# Altium schematic symbol library c3_SchLib.SchLib: 363 symbols (part 2 of 3)
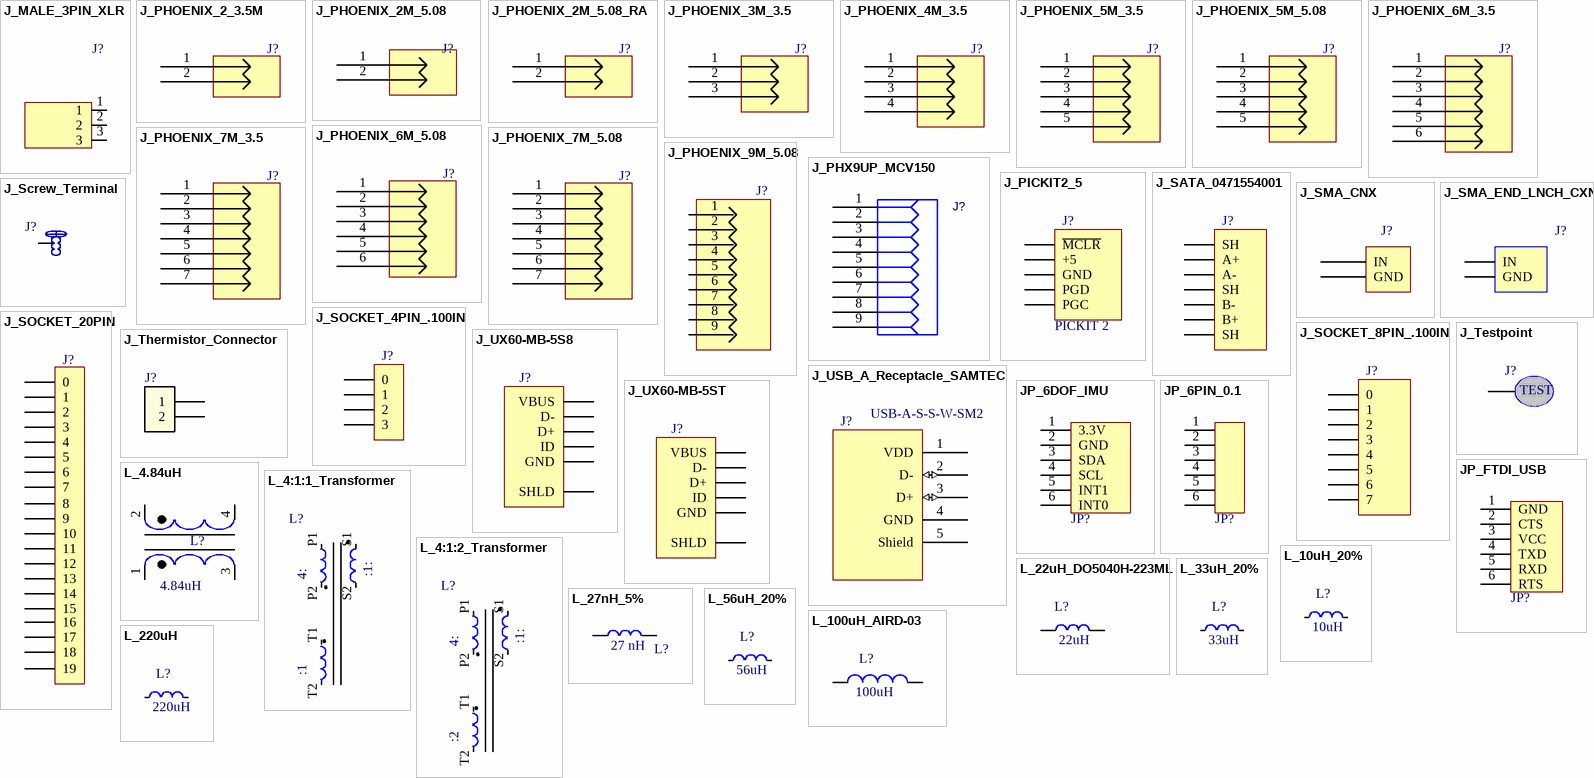
[diagram p12: symbols J_MALE_3PIN_XLR to L_220uH]

## J_UX60-MB-5ST
designator J?  (value not drawn)
CONN RECEPT MINI USB2.0 5POS; Manufacturer: Hirose; Manufacturer PN: UX60-MB-5S8; SVP Creator: Nate Bolyard; Known Distributors: Digikey; Price: 0.85240; ComponentLink1Description: Datasheet; ComponentLink1URL: http://umnsvp.dyndns.org/svn/centaurus2/datasheets/Common Board/e24000019.pdf; HelpURL: http://umnsvp.dyndns.org/svn/centaurus2/datasheets/Common Board/e24000019.pdf
footprint UX60-MB-5ST
pins: 1 VBUS, 2 D-, 3 D+, 4 ID, 5 GND, 6 SHLD

## JP_6DOF_IMU
designator JP?, comment IMU Connector  (value not drawn)
6DOF Sensor Board; SVP Creator: Mark Newcomb; Known Distributors: Sparkfun; ComponentLink1Description: http://www.sparkfun.com/products/10121; ComponentLink1URL: /Hardware/datasheets/Telemetry/6DOF-Digital-v10.pdf; Price: $64.95
footprint SPARKFUN_6DOF_IMU
pins: 1 3.3V, 2 GND, 3 SDA, 4 SCL, 5 INT1, 6 INT0

## JP_6PIN_0.1
designator JP?, comment IDC Connector  (value not drawn)
Generic 0.1in 6 pin 2x3 connector; SVP Creator: Jonathan Nutzmann
footprint 6PIN_.100IN
pins: 1, 2, 3, 4, 5, 6

## JP_FTDI_USB
designator JP?, comment IDC Connector  (value not drawn)
FTDI Cable VCC I/O; SVP Creator: Jonathan Nutzmann
footprint 6PIN_1_.100IN
pins: 1 GND, 2 CTS, 3 VCC, 4 TXD, 5 RXD, 6 RTS

## L_4.84uH
designator L?  value 4.84uH  (hidden comment: *)
L_4.84uH; Manufacturer: COILTRONICS; Manufacturer PN: DRQ127-4R7-R; SVP Creator: Matt Rogge; Known Distributors: digikey; ComponentLink1Description: Datasheet; ComponentLink1URL: SVN Datasheet URL; Price: 2.93
footprint DRQ127
pins: 1, 2, 3, 4

## L_4:1:1_Transformer
designator L?  (value not drawn)
FLYBACK TRANSFORMER; Manufacturer PN: Custom Wound Core; Current Rating: 7.2A; SVP Creator: Chad Furey; Value: 95uH; ComponentLink1Description: Datasheet
footprint DMT3-138-6L (Inductor); pin to pad P1>1 P2>2 S1>3 S2>4 T1>5 T2>6
pins: P1 1, P2 2, S1 3, S2 4, T1 5, T2 6
text: 4:; :1:; :1

## L_4:1:2_Transformer
designator L?  (value not drawn)
FLYBACK TRANSFORMER; Manufacturer PN: Custom Wound Core; Current Rating: 7.2A; SVP Creator: Marcus Ewert; Value: 95uH; ComponentLink1Description: Datasheet
footprint DMT3-138-6L (Inductor); pin to pad P1>1 P2>2 S1>3 S2>4 T1>5 T2>6
footprint 41.90mmOD Ferrite Core; pin to pad P1>1 P2>2 S1>4 S2>3 T1>5 T2>6
pins: P1 1, P2 2, S1 3, S2 4, T1 5, T2 6
text: 4:; :1:; :2

## L_10uH_20%
designator L?  value 10uH  (hidden comment: L_10uH_20%)
INDUCTOR PWR 10UH 20% SHIELD SMD; Manufacturer: Coilcraft; Manufacturer PN: LPS4018-103; Irms: 1.25A; SVP Creator: Brett Paulsen; Isat: 1.3A; Package: 4.00mm x 4.00mm x 1.8mm); Known Distributor: Digikey; ComponentLink1Description: Datasheet
footprint LPS4018_inductor
pins: 1, 2

## L_22uH_DO5040H-223ML
designator L?  value 22uH
DO5040H-223ML; Manufacturer: Coilcraft; SVP Creator: Jonathan Nutzmann; Manufacturer PN: DO5040H-223ML; ComponentLink1Description: Datasheet
footprint DO5040H
pins: 1, 2

## L_27nH_5%
designator L?  value 27 nH  (hidden comment: L_27nH_5%)
INDUCTOR WW CERAM 27.0NH 0805; Manufacturer: Abracon Corp; Manufacturer PN: AISC-0805-R027J-T; Current Rating: 500 mA; SVP Creator: Mark Newcomb; Package: 0805; Known Distributor: Digikey; ComponentLink1Description: Datasheet
footprint 0805 (0805 Resistor/Capacitor)
pins: 1, 2

## L_33uH_20%
designator L?  value 33uH  (hidden comment: L_33uH_20%)
INDUCTOR PWR 33UH 20% SHIELD SMD; Manufacturer: Bourns Inc; Manufacturer PN: SRR1210-330M; Current Rating: 3.7A; SVP Creator: Jonathan Nutzmann; Package: 0.472" L x 0.472" W x 0.394" H (12.00mm x 12.00mm x 10.00mm); Known Distributor: Digikey; ComponentLink1Description: Datasheet
footprint L_SRR1210
pins: 1, 2

## L_56uH_20%
designator L?  value 56uH  (hidden comment: L_56uH_20%)
INDUCTOR PWR 56UH 20% SHIELD SMD; Manufacturer: MSS7341-563ML; Irms: 1.25; SVP Creator: Jonathan Nutzmann; Isat: .68; Known Distributor: Digikey; ComponentLink1Description: Datasheet
footprint MSS7341 (Footprint not found)
pins: 1, 2

## L_100uH_AIRD-03
designator L?, comment value 100uH  (hidden comment: L_100uH)
INDUCTOR PWR DRUM CORE 100UH; Manufacturer: Abracon; Manufacturer PN: AIRD-03-101K; Current Rating: 13 A; SVP Creator: Brett Paulsen; Package: AIRD-03; Known Distributor: digikey; ComponentLink1Description: Datasheet
footprint AIRD-03
pins: 1, 2

## L_220uH
designator L?  value 220uH  (hidden comment: L_220uH)
MSS1278 Series Shielded  Surface Mount Power Inductors; Manufacturer: Coilcraft; Manufacturer PN: MSS1278-224KLB; Current Rating: 2.4A; SVP Creator: Thomas Daede; Package: 0.472" L x 0.472" W x 0.394" H (12.00mm x 12.00mm x 10.00mm); Known Distributor: Coilcraft; ComponentLink1Description: Datasheet
footprint L_SRR1210
pins: 1, 2

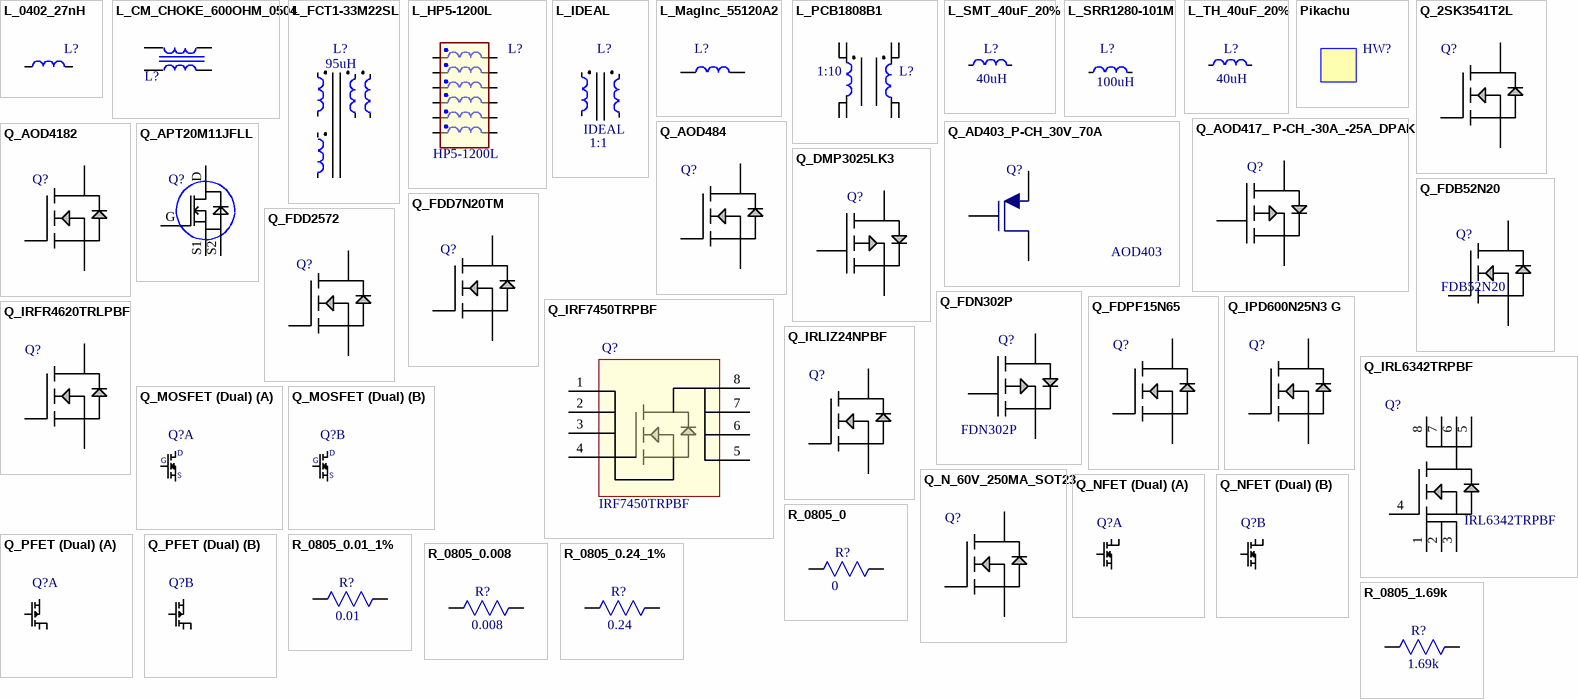
[diagram p4: symbols L_0402_27nH to R_0805_1.69k]

## L_0402_27nH
designator L?, comment Short Part Description  (value not drawn)
INDUCTOR 27NH 300MA 0402; Manufacturer: Murata; Manufacturer PN: LQG15HS27NJ02D; SVP Creator: Mark Newcomb; ComponentLink1Description: Datasheet; ComponentLink1URL: SVN Datasheet URL
footprint INDC1005X06N (0402) (Chip Inductor, 2-Leads, Body 1.0x0.5mm, IPC Medium Density)
pins: 1, 2

## L_CM_CHOKE_600OHM_0504
designator L?
NOISE FILTER 2 MODE 600 OHM SMD; Manufacturer: Panasonic-ECg; Manufacturer PN: EXC-24CN601X; SVP Creator: Jonathan Nutzmann; Current Rating: 200mA; Package: 0504; Known Distributors: Digikey; Cost: 0.078; Digikey PN: P14215CT-ND
footprint 0504-4 (Footprint not found)
pins: 1, 2, 3, 4

## L_FCT1-33M22SL
designator L?  value 95uH  (hidden comment: L_FCT1-33M22SL)
FORWARD MODE TRANSFORMER; Manufacturer: Coilcraft; Current Rating: 7.2A; SVP Creator: Jonathan Nutzmann; Manufacturer PN: FCT1-33M22SL; ComponentLink1Description: Datasheet; ComponentLink1URL: http://www.coilcraft.com/pdfs/fct1xxm22sl.pdf
pins: 1, 2, 4, 5, 6, 7, 9, 10

## L_HP5-1200L
designator L?, comment HP5-1200L
Hexa-Path Magnetics  SMT Inductors and Transformers; Manufacturer: Coilcraft; Current Rating: 2.25 rms per coil; SVP Creator: Jonathan Nutzmann; Value: 76.8 uH per coil; Package: HP5; Manufacturer PN: HP5-1200L; ComponentLink1Description: Datasheet; ComponentLink1URL: http://www.coilcraft.com/pdf_viewer/showpdf.cfm?f=pdf_store:hexa-path.pdf
footprint HP5, HPH5
pins: 1, 2, 3, 4, 5, 6, 7, 8, 9, 10, 11, 12

## L_IDEAL
designator L?, comment value 1:1  Manufacturer PN: IDEAL  (hidden comment: L_IDEAL 1:1)
IDEAL TRANSFORMER; SVP Creator: Jonathan Nutzmann; ComponentLink1Description: Datasheet
pins: 1, 2, 6, 9

## L_MagInc_55120A2
designator L?
55120A2; Manufacturer: Magnetics Inc; SVP Creator: Jonathan Nutzmann; Manufacturer PN: 55120A2; ComponentLink1Description: Datasheet
footprint Magnetics_55120A2
pins: 1, 2

## L_PCB1808B1
designator L?  value 1:10
10:1 Custom Transformer; Manufacturer PN: 42; SVP Creator: Jonathan Nutzmann; ComponentLink1Description: Datasheet
footprint PCB1808B1 (Footprint not found)
pins: 1, 2, 3, 4, 5, 6, 7, 8

## L_SMT_40uF_20%
designator L?, comment value 40uH  (hidden comment: Short Part Description)
INDUCTOR PWR 40UH 20% UNSHIELDED SMD; Manufacturer: PULSE ELECTRONICS CORPORATION; Manufacturer PN: PF0504.403NLT; SVP Creator: Andrew Brown; DC Resistance: 50mOhm; ComponentLink1Description: Datasheet; ComponentLink1URL: http://search.digikey.com/scripts/DkSearch/dksus.dll?Detail&name=PF0504.403NLT-ND
footprint SMT_Inductor_pad
pins: 1, 2

## L_SRR1280-101M
designator L?, comment value 100uH  (hidden comment: SRR1280-101M)
INDUCTOR SHIELDED 100UH SMD; Manufacturer: Bourns Inc; Current Rating: 2.1A; SVP Creator: Jonathan Nutzmann; Package: 0.492" L x 0.492" W x 0.295" H (12.50mm x 12.50mm x 7.50mm); Manufacturer PN: SRR1280-101M; Known Distributor: Digikey; ComponentLink1Description: Datasheet
footprint L_SRR1280
pins: 1, 2

## L_TH_40uF_20%
designator L?, comment value 40uH  (hidden comment: Short Part Description)
INDUCTOR PWR 40UH 20% UNSHIELDED SMD; Manufacturer: PULSE ELECTRONICS CORPORATION; Manufacturer PN: PF0504.403NLT; SVP Creator: Andrew Brown; DC Resistance: 50mOhm; ComponentLink1Description: Datasheet; ComponentLink1URL: http://search.digikey.com/scripts/DkSearch/dksus.dll?Detail&name=PF0504.403NLT-ND
pins: 1, 2

## Pikachu
designator HW?  (value not drawn)
footprint PIKACHU

## Q_2SK3541T2L
designator Q?, comment 2SK3541T2L  (value not drawn)
MOSFET N-CH 20V 0.9A SOT-23; Manufacturer: Fairchild Semiconductor; Manufacturer PN: FDV305N; SVP Creator: Jonathan Nutzmann; Package: SOT-23-3; Known Distributors: Digikey; Price: 0.46; ComponentLink1Description: Datasheet
footprint SOT-23 (SOT23, 3-Leads, Body 3.0x2.7mm (max), Pitch 0.95mm, IPC Medium Density)
pins: 1 GATE, 2 SOURCE, 3 DRAIN

## Q_AD403_P-CH_30V_70A
designator Q?  Manufacturer PN: AOD403  (hidden comment: Q_AD403_P-CH_30V_70A)
MOSFET P-CH -30V -85A TO-252; Manufacturer: Alpha & Omega; SVP Creator: Brittany Pentek; SVP Reviewer 1: Matt Rogge; Voltage Rating: 40V; Current Rating: 70A; Power Rating: 100W; Rds_On: 6 mOhm @ 20A, 20V; Package: DPak; Known Distributors: Digikey; Price: $1.14; HelpURL: http://search.digikey.com/scripts/DkSearch/dksus.dll?Detail&name=785-1101-1-ND; ComponentLink1URL: http://umnsvp.dyndns.org/svn/centaurus2/datasheets/Driver Interface/FDD4243; ComponentLink1Description: Datasheet
footprint DPAK
pins: 1, 2, 3

## Q_AOD417_ P-CH_-30A_-25A_DPAK
designator Q?, comment MOSFET P-CH 30V 25A TO-252  (value not drawn)
MOSFET P-CH 30V 25A TO-252 DPAK; Manufacturer: Alpha & Omega Semiconductor Inc; Manufacturer PN: AOD417; SVP Creator: Brittany Pentek; SVP Reviewer 1: Brett Paulsen; Package: TO-252, (D-Pak); Known Distributors: Digikey; ComponentLink1URL: http://search.digikey.com/scripts/DkSearch/dksus.dll?Detail&name=785-1106-1-ND; ComponentLink1Description: http://www.aosmd.com/res/data_sheets/AOD417.pdf; HelpURL: http://search.digikey.com/scripts/DkSearch/dksus.dll?Detail&name=785-1106-1-ND; Price: 0.59
footprint DPAK
pins: 1 DRAIN, 2 SOURCE, 3 GATE

## Q_AOD484
designator Q?, comment MOSFET N-CH 30V 25A TO-252  (value not drawn)
MOSFET N-CH 30V 25A TO-252 DPAK; Manufacturer: Alpha & Omega Semiconductor Inc; Manufacturer PN: AOD484; SVP Creator: Brittany Pentek; SVP Reviewer 1: Brett Paulsen; SVP Reviewer 2: Jonathan Nutzmann; Package: TO-252, (D-Pak); Known Distributors: Digikey; Price: 0.58; HelpURL: http://search.digikey.com/scripts/DkSearch/dksus.dll?Detail&name=785-1114-1-ND; ComponentLink1URL: http://search.digikey.com/scripts/DkSearch/dksus.dll?Detail&name=785-1114-1-ND; ComponentLink1Description: http://www.aosmd.com/res/data_sheets/AOD484.pdf
footprint DPAK
pins: 1 DRAIN, 2 SOURCE, 3 GATE

## Q_AOD4182
designator Q?
MOSFET N-CH 80V 53A DPAK; Manufacturer: Alpha and Omega Semiconductor; Manufacturer PN: AOD4182; SVP Creator: Thomas Daede; Package: DPAK; Known Distributors: Digikey; ComponentLink1Description: Datasheet; Price: 1.08
footprint DPAK
pins: 1 DRAIN, 2 SOURCE, 3 GATE

## Q_APT20M11JFLL
designator Q?  (value not drawn)
Q_APT20M11JFLL
footprint IS0227
pins: D Drain, G Gate, S1 Source, S2 Source

## Q_DMP3025LK3
designator Q?, comment DMP3025LK3  (value not drawn)
MOSFET P-CH 30V 10.6A DPAK; Manufacturer: Diodes/Zetex; SVP Creator: Jonathan Nutzmann; Package: DPAK; Known Distributors: Digikey; Manufacturer PN: DMP3025LK3; ComponentLink1Description: Datasheet; Value: DMP3025LK3; Price: 0.77
footprint DPAK
pins: 1 DRAIN, 2 SOURCE, 3 GATE

## Q_FDB52N20
designator Q?, comment FDB52N20
MOSFET N-CH 200V 52A D2-PAK; Manufacturer: Fairchild Semiconductor; SVP Creator: Chad Furey; Package: D2PAK; Known Distributors: Digikey; Manufacturer PN: FDB52N20; ComponentLink1Description: Datasheet; Price: ?
footprint D2PAK - DA-T263-101E (D2-PAK/TO-263-AB; 3 Leads (1 Cropped); Body 15.5 (inc. leads) x 10.5 mm (LxW max))
pins: 1 GATE, 2 DRAIN, 3 SOURCE

## Q_FDD7N20TM
designator Q?
MOSFET N-CH 200V 5A D-PAK; Manufacturer: Fairchild Semiconductor; Manufacturer PN: FDD7N20TM; SVP Creator: Thomas Daede; Package: DPAK; Known Distributors: Digikey; ComponentLink1Description: Datasheet; Price: 0.66
footprint DPAK
pins: 1 DRAIN, 2 SOURCE, 3 GATE

## Q_FDD2572
designator Q?, comment FDD2572  (value not drawn)
MOSFET N-CH 150V 29A D-PAK; Manufacturer: Fairchild Semiconductor; SVP Creator: Thomas Daede; Package: DPAK; Known Distributors: Digikey; Manufacturer PN: FDD2572; ComponentLink1Description: Datasheet; Price: 1.76
footprint DPAK
pins: 1 DRAIN, 2 GATE, 3 SOURCE

## Q_FDN302P
designator Q?, comment FDN302P
MOSFET P-CH 20V 2.4A SSOT3; Manufacturer: Fairchild Semiconductor; SVP Creator: Adam Shea; SVP Reviewer 1: Nate Bolyard; SVP Reviewer 2: Trevtron; Package: SOT-23; Known Distributors: Digikey, Newark; Manufacturer PN: FDN302P; ComponentLink1URL: http://umnsvp.dyndns.org/svn/centaurus2/datasheets/Common Board/FDN302P.pdf; ComponentLink1Description: Datasheet; HelpURL: http://umnsvp.dyndns.org/svn/centaurus2/datasheets/Common Board/FDN302P.pdf; Value: FDN302P
footprint SOT-23 (SOT23, 3-Leads, Body 3.0x2.7mm (max), Pitch 0.95mm, IPC Medium Density)
pins: 1 GATE, 2 SOURCE, 3 DRAIN

## Q_FDPF15N65
designator Q?, comment MOSFET N-CH 30V 25A TO-252  (value not drawn)
MOSFET N-CH 30V 25A TO-252 DPAK; Manufacturer: Alpha & Omega Semiconductor Inc; Manufacturer PN: AOD484; SVP Creator: Brittany Pentek; SVP Reviewer 1: Brett Paulsen; SVP Reviewer 2: Jonathan Nutzmann; Package: TO-252, (D-Pak); Known Distributors: Digikey; Price: 0.58; HelpURL: http://search.digikey.com/scripts/DkSearch/dksus.dll?Detail&name=785-1114-1-ND; ComponentLink1URL: http://search.digikey.com/scripts/DkSearch/dksus.dll?Detail&name=785-1114-1-ND; ComponentLink1Description: http://www.aosmd.com/res/data_sheets/AOD484.pdf
footprint DPAK
pins: 1 DRAIN, 2 SOURCE, 3 GATE

## Q_IPD600N25N3 G
designator Q?, comment IPD600N25N3 G  (value not drawn)
MOSFET N-CH 250V 25A TO252-3; Manufacturer: Infineon; SVP Creator: Jonathan Nutzmann; Gate Charge: 29nC; Package: TO-252, (D-Pak); Known Distributors: Digikey; Manufacturer PN: IPD600N25N3 G; Price: 2.49; ComponentLink1Description: http://search.digikey.com/scripts/DkSearch/dksus.dll?Detail&name=IRFR4620TRLPBFCT-ND; Current: 25A; Voltage: 250V
footprint DPAK - JN
pins: 1 GATE, 2 DRAIN, 3 SOURCE

## Q_IRF7450TRPBF
designator Q?, comment IRF7450TRPBF
MOSFET N-CH 200V 2.5A 8-SOIC; Manufacturer: International Rectifier; SVP Creator: Jonathan Nutzmann; Package: SOIC-8; Known Distributors: Digikey; Manufacturer PN: IRF7450TRPBF; Price: 1.08; ComponentLink1Description: http://www.irf.com/product-info/datasheets/data/irf7450pbf.pdf
footprint SOIC127P600X175-8N (SOIC, 8-Leads, Body 4.9x3.9mm (max), Pitch 1.27mm, IPC Medium Density)
pins: 1, 2, 3, 4, 5, 6, 7, 8

## Q_IRFR4620TRLPBF
designator Q?, comment IRFR4620TRLPBF  (value not drawn)
MOSFET N-CH 200V 24A DPAK; Manufacturer: International Rectifiers; SVP Creator: Jonathan Nutzmann; Gate Charge: 38nC; Package: TO-252, (D-Pak); Known Distributors: Digikey; Manufacturer PN: IRFR4620TRLPBF; Price: 0.58; ComponentLink1Description: http://search.digikey.com/scripts/DkSearch/dksus.dll?Detail&name=IRFR4620TRLPBFCT-ND; Current: 24A; Voltage: 200V
footprint DPAK
pins: 1 DRAIN, 2 SOURCE, 3 GATE

## Q_IRL6342TRPBF
designator Q?, comment IRL6342TRPBF
MOSFET N-CH 30V 9.9A 8SOIC; Manufacturer: International Rectifier; SVP Creator: Jonathan Nutzmann; Package: SOIC-8; Known Distributors: Digikey; Manufacturer PN: IRL6342TRPBF; Price: .73
footprint SOIC127P600X175-8N (SOIC, 8-Leads, Body 4.9x3.9mm (max), Pitch 1.27mm, IPC Medium Density)
pins: 1, 2, 3, 4, 5, 6, 7, 8

## Q_IRLIZ24NPBF
designator Q?, comment IRLIZ24NPBF  (value not drawn)
MOSFET N-CH 55V 14A TO220FP; Manufacturer: IR; SVP Creator: Jonathan Nutzmann; Package: TO-220; Known Distributors: Digikey; Manufacturer PN: IRLIZ24NPBF; ComponentLink1Description: Datasheet
footprint TO-220-BENT
pins: 1 GATE, 2 DRAIN, 3 SOURCE

## Q_MOSFET (Dual)
designator Q?  (value not drawn)
MOSFET 2N-CH 60V 280MA SOT-563; Manufacturer: Diodes Inc; Manufacturer PN: 2N7002VA-7; SVP Creator: Matt Crane; Package: SOT-563; Known Distributors: Digikey
footprint 2N7002VA-7 (MOSFET 2N-CH 60V 280MA SOT-563)
part A pins: 3, 4, 5
part B pins: 1, 2, 6
part A text: D; G; S
part B text: D; G; S

## Q_N_60V_250MA_SOT23
designator Q?, comment RK7002BT116  (value not drawn)
MOSFET N-CH 60V 250MA SOT-23; Manufacturer: Rohm Semiconductor; SVP Creator: Jonathan Nutzmann; Package: SOT-23-3; Known Distributors: Digikey; Manufacturer PN: RK7002BT116; Price: .13@25; ComponentLink1Description: Datasheet
footprint SOT-23 (SOT23, 3-Leads, Body 3.0x2.7mm (max), Pitch 0.95mm, IPC Medium Density)
pins: 1 GATE, 2 SOURCE, 3 DRAIN

## Q_NFET (Dual)
designator Q?  (value not drawn)
MOSFET 2N-CH 20V 8A SOP8L; Manufacturer: Diodes Inc; Manufacturer PN: DMG9926USD-13; SVP Creator: Matt Crane; Package: 8-SOP; Known Distributors: Digikey
footprint SOIC127P600X175-8N (FET) (SOIC, 8-Leads, Body 4.9x3.9mm (max), Pitch 1.27mm, IPC Medium Density)
part A pins: 1, 2, 7, 8
part B pins: 3, 4, 5, 6

## Q_PFET (Dual)
designator Q?  (value not drawn)
HEX/MOS P-CHAN DL 20V 2.3A 8SOIC; Manufacturer: International Rectifier; Manufacturer PN: IRF7104TRPBF; SVP Creator: Matt Crane; Package: 8-SOIC (0.154", 3.90mm Width); Known Distributors: Digikey
footprint SOIC127P600X175-8N (FET) (SOIC, 8-Leads, Body 4.9x3.9mm (max), Pitch 1.27mm, IPC Medium Density)
part A pins: 1, 2, 7, 8
part B pins: 3, 4, 5, 6

## R_0805_0
designator R?  value 0  (hidden comment: R_0805_0)
RES 0 OHM 0805 SMD; Power Rating: .125W; SVP Creator: Jonathan Nutzmann; Package: 0805; Known Distributor: Digikey; ComponentLink1Description: Datasheet
footprint 0805_Resistor (0805 Resistor)
pins: 1, 2

## R_0805_0.01_1%
designator R?  value 0.01  (hidden comment: R_0805_0.01_1%)
RES 0.01 OHM 1/8W 1% 0805 SMD; Power Rating: .125W; Package: 0805; Known Distributor: Digikey; ComponentLink1Description: Datasheet
footprint 0805_Resistor (0805 Resistor)
pins: 1, 2

## R_0805_0.008
designator R?  value 0.008  (hidden comment: R_0805_0.008)
RES .008 OHM 1/2W 1% 0805 SMD; Manufacturer: Rohm Semiconductor; SVP Creator: Matt Rogge; Package: 0805; Power Rating: 1/2W; Known Distributor: digikey; ComponentLink1Description: Datasheet; ComponentLink1URL: http://media.digikey.com/pdf/Data%20Sheets/Rohm%20PDFs/PMR10-SERIES.pdf
footprint PMR10
pins: 1, 2

## R_0805_0.24_1%
designator R?  value 0.24  (hidden comment: R_0805_0.24_1%)
RES 0.24 OHM 1/8W 1% 0805 SMD; Power Rating: .125W; SVP Creator: Thomas Daede; Package: 0805; Known Distributor: Digikey; ComponentLink1Description: Datasheet
footprint 0805_Resistor (0805 Resistor)
pins: 1, 2

## R_0805_1.69k
designator R?  value 1.69k  (hidden comment: R_0805_1.69k)
RES 1.69K OHM 1/8W 1% 0805 SMD; Manufacturer: Panasonic; Manufacturer PN: ERJ-6ENF1691V; SVP Creator: Matt Rogge; Package: 0805; Power Rating: 1/8W; Known Distributor: digikey; ComponentLink1Description: Datasheet; ComponentLink1URL: http://industrial.panasonic.com/www-cgi/jvcr13pz.cgi?E+PZ+3+AOA0002+ERJ6ENF1691V+7+WW
footprint 0805_Resistor (0805 Resistor)
pins: 1, 2

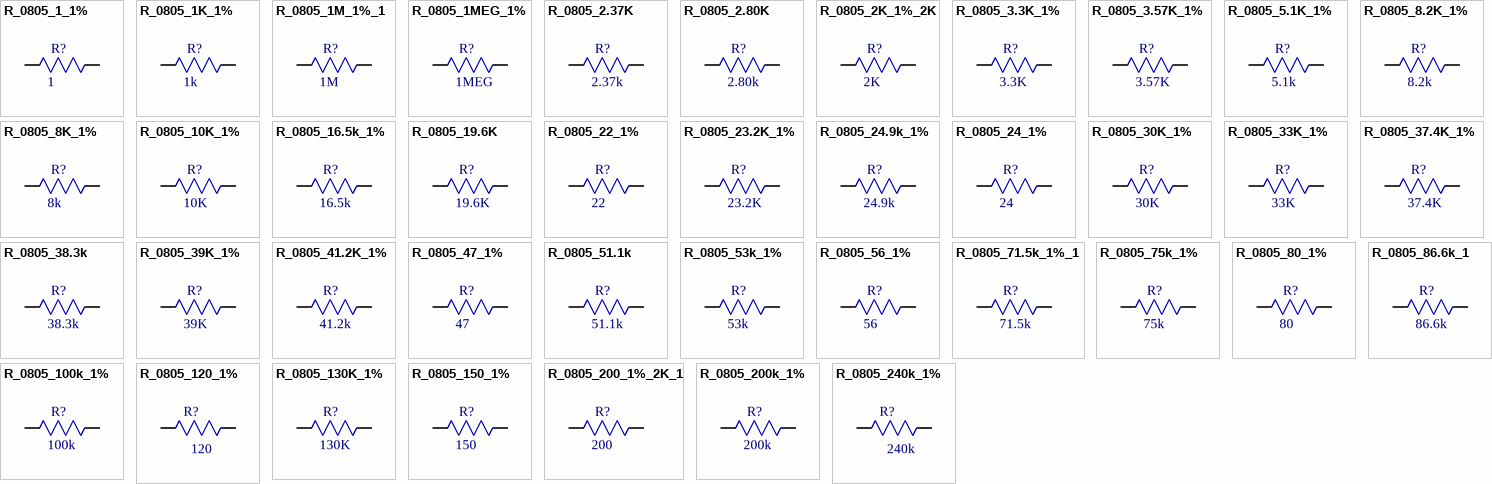
[diagram p5: symbols R_0805_1_1% to R_0805_240k_1%]

## R_0805_1_1%
designator R?  value 1  (hidden comment: R_0805_1_1%)
RES 1 OHM 1/8W 1% 0805 SMD; Power Rating: .125W; SVP Creator: Patrick A. Plonski; Package: 0805; Known Distributor: Digikey; ComponentLink1Description: Datasheet
footprint 0805_Resistor (0805 Resistor)
pins: 1, 2

## R_0805_1K_1%
designator R?, comment value 1k  (hidden comment: R_0805_1k)
RES 1K OHM 1/8W 1% 0805 SMD; Power Rating: .125W; SVP Creator: Katie Moenkhaus; Package: 0805; Known Distributor: Digikey; ComponentLink1Description: Datasheet
footprint 0805_Resistor (0805 Resistor)
pins: 1, 2

## R_0805_1M_1%_1
designator R?, comment value 1M  (hidden comment: R_0805_1M_1%)
RES 1M OHM 1/8W 1% 0805 SMD; Power Rating: .125W; SVP Creator: Thomas Daede; Package: 0805; Known Distributor: Digikey; ComponentLink1Description: Datasheet
footprint 0805_Resistor (0805 Resistor)
pins: 1, 2

## R_0805_1MEG_1%
designator R?  value 1MEG  (hidden comment: R_0805_1MEG_1%)
RES 1MEG OHM 1/8W 1% 0805 SMD; Power Rating: .125W; SVP Creator: Brett Paulsen; Package: 0805; Known Distributor: Digikey; ComponentLink1Description: Datasheet
footprint 0805_Resistor (0805 Resistor)
pins: 1, 2

## R_0805_2.37K
designator R?  value 2.37k  (hidden comment: R_0805_2.37K)
RES 2.37K OHM 1/8W 1% 0805 SMD; Manufacturer: Panasonic; Manufacturer PN: ERJ-6ENF2371V; SVP Creator: Matt Rogge; Package: 0805; Power Rating: 1/8W; Known Distributor: digikey; ComponentLink1Description: Datasheet; ComponentLink1URL: http://industrial.panasonic.com/www-data/pdf/AOA0000/AOA0000CE2.pdf
footprint 0805_Resistor (0805 Resistor)
pins: 1, 2

## R_0805_2.80K
designator R?  value 2.80k  (hidden comment: R_0805_2.80K)
RES 2.80K OHM 1/8W 1% 0805 SMD; Package: 0805; Power Rating: 1/8W; Known Distributor: digikey; ComponentLink1Description: Datasheet
footprint 0805_Resistor (0805 Resistor)
pins: 1, 2

## R_0805_2K_1%_2K
designator R?, comment value 2K  (hidden comment: R_0805_2K_1%)
RES 2K OHM 1/8W 1% 0805 SMD; Power Rating: .125W; SVP Creator: Jonathan Nutzmann; Package: 0805; Known Distributor: Digikey; ComponentLink1Description: Datasheet
footprint 0805_Resistor (0805 Resistor)
pins: 1, 2

## R_0805_3.3K_1%
designator R?, comment value 3.3K  (hidden comment: R_0805_3.3k_1%)
RES 3.3K OHM 1/8W 1% 0805 SMD; Power Rating: .125W; SVP Creator: Jonathan Nutzmann; Package: 0805; Known Distributor: Digikey; ComponentLink1Description: Datasheet
footprint 0805_Resistor (0805 Resistor)
pins: 1, 2

## R_0805_3.57K_1%
designator R?, comment value 3.57K  (hidden comment: R_0805_3.57k_1%)
RES 3.57K OHM 1/8W 1% 0805 SMD; Manufacturer PN: MCR10EZPF3571; Power Rating: .125W; SVP Creator: Andrew Brown; Package: 0805; Known Distributor: Digikey; ComponentLink1Description: Datasheet; ComponentLink1URL: http://search.digikey.com/scripts/DkSearch/dksus.dll?Detail&name=RHM3.57KCRCT-ND
footprint 0805_Resistor (0805 Resistor)
pins: 1, 2

## R_0805_5.1K_1%
designator R?, comment value 5.1k  (hidden comment: R_0805_5.1k)
RES 5.1K OHM 1/8W 1% 0805 SMD; Power Rating: .125W; SVP Creator: Jonathan Nutzmann; Package: 0805; Known Distributor: Digikey; ComponentLink1Description: Datasheet; ComponentLink1URL: http://search.digikey.com/us/en/products/ERJ-6ENF5101V/P5.10KCCT-ND/1746877
footprint 0805_Resistor (0805 Resistor)
pins: 1, 2

## R_0805_8.2K_1%
designator R?, comment value 8.2k  (hidden comment: R_0805_8.2k)
RES 8.2K OHM 1/8W 1% 0805 SMD; Manufacturer: Panasonic; Manufacturer PN: ERJ-6GEYJ822V; Power Rating: .125W; SVP Creator: Jonathan Nutzmann; Package: 0805; Known Distributor: Digikey; ComponentLink1Description: Datasheet
footprint 0805_Resistor (0805 Resistor)
pins: 1, 2

## R_0805_8K_1%
designator R?, comment value 8k  (hidden comment: R_0805_8k)
RES 8K OHM 1/8W 1% 0805 SMD; Power Rating: .125W; SVP Creator: Jonathan Nutzmann; Package: 0805; Known Distributor: Digikey; ComponentLink1Description: Datasheet
footprint 0805_Resistor (0805 Resistor)
pins: 1, 2

## R_0805_10K_1%
designator R?, comment value 10K  (hidden comment: R_0805_10k_1%)
RES 10K OHM 1/8W 1% 0805 SMD; Power Rating: .125W; SVP Creator: Jonathan Nutzmann; Package: 0805; Known Distributor: Digikey; ComponentLink1Description: Datasheet
footprint 0805_Resistor (0805 Resistor)
pins: 1, 2

## R_0805_16.5k_1%
designator R?  value 16.5k  (hidden comment: R_0805_16.5k_1%)
RES 16.5k OHM 1/8W 1% 0805 SMD; Power Rating: .125W; SVP Creator: Brett Paulsen; Package: 0805; Known Distributor: Digikey; ComponentLink1Description: Datasheet; ComponentLink1URL: http://search.digikey.com/us/en/products/ERJ-6ENF1652V/P16.5KCCT-ND/119324
footprint 0805_Resistor (0805 Resistor)
pins: 1, 2

## R_0805_19.6K
designator R?  value 19.6K  (hidden comment: R_0805_19.6K)
RES 19.6K OHM 1/8W 1% 0805 SMD; Manufacturer: Panasonic; Manufacturer PN: ERJ-6ENF1962V; SVP Creator: Matt Rogge; Package: 0805; Power Rating: 1/8W; Known Distributor: digikey; ComponentLink1Description: Datasheet; ComponentLink1URL: http://industrial.panasonic.com/www-cgi/jvcr13pz.cgi?E+PZ+3+AOA0002+ERJ6ENF1962V+7+WW
footprint 0805_Resistor (0805 Resistor)
pins: 1, 2

## R_0805_22_1%
designator R?  value 22  (hidden comment: R_0805_22_1%)
RES 22 OHM 1/8W 1% 0805 SMD; Power Rating: .125W; SVP Creator: Jonathan Nutzmann; Package: 0805; Known Distributor: Digikey; ComponentLink1Description: Datasheet
footprint 0805_Resistor (0805 Resistor)
pins: 1, 2

## R_0805_23.2K_1%
designator R?  value 23.2K  (hidden comment: R_0805_23.2K_1%)
RES 23.2K OHM 1/8W 1% 0805 SMD; Power Rating: .125W; SVP Creator: Jonathan Nutzmann; Package: 0805; Known Distributor: Digikey; ComponentLink1Description: Datasheet
footprint 0805_Resistor (0805 Resistor)
pins: 1, 2

## R_0805_24.9k_1%
designator R?  value 24.9k  (hidden comment: R_0805_24.9k_1%)
RES 24.9K OHM 1/8W 1% 0805 SMD; Power Rating: .125W; SVP Creator: Jonathan Nutzmann; Package: 0805; Known Distributor: Digikey; ComponentLink1Description: Datasheet; ComponentLink1URL: http://search.digikey.com/us/en/products/ERJ-6ENF2492V/P24.9KCCT-ND/119375
footprint 0805_Resistor (0805 Resistor)
pins: 1, 2

## R_0805_24_1%
designator R?  value 24  (hidden comment: R_0805_24_1%)
RES 24 OHM 1/8W 1% 0805 SMD; Power Rating: .125W; SVP Creator: Jonathan Nutzmann; Package: 0805; Known Distributor: Digikey; ComponentLink1Description: Datasheet
footprint 0805_Resistor (0805 Resistor)
pins: 1, 2

## R_0805_30K_1%
designator R?  value 30K  (hidden comment: R_0805_30K_1%)
RES 30K OHM 1/8W 1% 0805 SMD; Power Rating: .125W; SVP Creator: Brett Paulsen; Package: 0805; Known Distributor: Digikey; ComponentLink1Description: Datasheet
footprint 0805_Resistor (0805 Resistor)
pins: 1, 2

## R_0805_33K_1%
designator R?  value 33K  (hidden comment: R_0805_33K_1%)
RES 33K OHM 1/8W 1% 0805 SMD; Manufacturer: Rohm; Manufacturer PN: MCR10EZPF3302; Power Rating: .125W; SVP Creator: Andrew Brown; Package: 0805; Known Distributor: Digikey; ComponentLink1Description: Datasheet; ComponentLink1URL: http://search.digikey.com/scripts/DkSearch/dksus.dll?Detail&name=RHM33.0KCRCT-ND
footprint 0805_Resistor (0805 Resistor)
pins: 1, 2

## R_0805_37.4K_1%
designator R?  value 37.4K  (hidden comment: R_0805_37.4K_1%)
RES 37.4K OHM 1/8W 1% 0805 SMD; Manufacturer PN: MCR10EZPF3742; Power Rating: .125W; SVP Creator: Andrew Brown; Package: 0805; Known Distributor: Digikey; ComponentLink1Description: Datasheet; ComponentLink1URL: http://search.digikey.com/scripts/DkSearch/dksus.dll?Detail&name=RHM37.4KCRCT-ND
footprint 0805_Resistor (0805 Resistor)
pins: 1, 2

## R_0805_38.3k
designator R?  value 38.3k  (hidden comment: R_0805_38.3k)
RES 38.3K OHM 1/8W 1% 0805 SMD; Manufacturer: Panasonic; Manufacturer PN: ERJ-6ENF3832V; SVP Creator: Matt Rogge; Package: 0805; Power Rating: 1/8W; Known Distributor: digikey; ComponentLink1Description: Datasheet
footprint 0805_Resistor (0805 Resistor)
pins: 1, 2

## R_0805_39K_1%
designator R?  value 39K  (hidden comment: R_0805_39K_1%)
RES 39K OHM 1/8W 1% 0805 SMD; Power Rating: .125W; SVP Creator: Jonathan Nutzmann; Package: 0805; Known Distributor: Digikey; ComponentLink1Description: Datasheet
footprint 0805_Resistor (0805 Resistor)
pins: 1, 2

## R_0805_41.2K_1%
designator R?  value 41.2k  (hidden comment: R_0805_41.2K_1%)
RES 41.2K OHM 1/8W 1% 0805 SMD; Power Rating: .125W; SVP Creator: Jonathan Nutzmann; Package: 0805; Known Distributor: Digikey; ComponentLink1Description: Datasheet
footprint 0805_Resistor (0805 Resistor)
pins: 1, 2

## R_0805_47_1%
designator R?  value 47  (hidden comment: R_0805_47_1%)
RES 47 OHM 1/8W 1% 0805 SMD; Power Rating: .125W; SVP Creator: Jonathan Nutzmann; Package: 0805; Known Distributor: Digikey; ComponentLink1Description: Datasheet
footprint 0805_Resistor (0805 Resistor)
pins: 1, 2

## R_0805_51.1k
designator R?  value 51.1k  (hidden comment: R_0805_51.1k)
RES 51.1K OHM 1/8W 1% 0805 SMD; Manufacturer: Panasonic; Manufacturer PN: ERJ-6ENF5112V; Power Rating: .125W; SVP Creator: Matt Rogge; Package: 0805; Known Distributor: digikey; ComponentLink1Description: Datasheet
footprint 0805_Resistor (0805 Resistor)
pins: 1, 2

## R_0805_53k_1%
designator R?  value 53k  (hidden comment: R_0805_53k_1%)
RES 53K OHM 1/8W 1% 0805 SMD; Manufacturer: Rohm Semiconductor; Manufacturer PN: RHM750KCRCT-ND; Power Rating: .125W; SVP Creator: Jonathan Nutzmann; Package: 0805; Known Distributor: Digikey; ComponentLink1Description: Datasheet
footprint 0805_Resistor (0805 Resistor)
pins: 1, 2

## R_0805_56_1%
designator R?  value 56  (hidden comment: R_0805_56_1%)
RES 56 OHM 1/8W 1% 0805 SMD; Power Rating: .125W; SVP Creator: Jonathan Nutzmann; Package: 0805; Known Distributor: Digikey; ComponentLink1Description: Datasheet
footprint 0805_Resistor (0805 Resistor)
pins: 1, 2

## R_0805_71.5k_1%_1
designator R?, comment value 71.5k  (hidden comment: R_0805_71.5k_1%)
RES 71.5K OHM 1/8W 1% 0805 SMD; Power Rating: .125W; SVP Creator: Matt Rogge; Package: 0805; Known Distributor: Digikey; ComponentLink1Description: Datasheet; ComponentLink1URL: http://search.digikey.com/us/en/products/ERJ-6ENF7152V/P71.5KCCT-ND/119508
footprint 0805_Resistor (0805 Resistor)
pins: 1, 2

## R_0805_75k_1%
designator R?  value 75k  (hidden comment: R_0805_75k_1%)
RES 75K OHM 1/8W 1% 0805 SMD; Manufacturer: Rohm Semiconductor; Manufacturer PN: MCR10EZPF7502; Power Rating: .125W; SVP Creator: Andrew Brown; Package: 0805; Known Distributor: Digikey; ComponentLink1Description: Datasheet; ComponentLink1URL: http://search.digikey.com/scripts/DkSearch/dksus.dll?Detail&name=RHM75.0KCRCT-ND
footprint 0805_Resistor (0805 Resistor)
pins: 1, 2

## R_0805_80_1%
designator R?, comment value 80  (hidden comment: R_0805_80)
RES 80 OHM 1/8W 1% 0805 SMD; Power Rating: .125W; SVP Creator: Jonathan Nutzmann; Package: 0805; Known Distributor: Digikey; ComponentLink1Description: Datasheet
footprint 0805_Resistor (0805 Resistor)
pins: 1, 2

## R_0805_86.6k_1
designator R?, comment value 86.6k  (hidden comment: R_0805_86.6k)
RES 86.6K OHM 1/8W 1% 0805 SMD; Manufacturer: Panasonic; Manufacturer PN: ERJ-6ENF8662V; SVP Creator: Matt Rogge; Package: 0805; Power Rating: 1/8W; Known Distributor: digikey; ComponentLink1Description: Datasheet
footprint 0805_Resistor (0805 Resistor)
pins: 1, 2

## R_0805_100k_1%
designator R?  value 100k  (hidden comment: R_0805_100k_1%)
RES 100K OHM 1/8W 1% 0805 SMD; Manufacturer: Rohm Semiconductor; Power Rating: .125W; SVP Creator: Jonathan Nutzmann; Package: 0805; Known Distributor: Digikey; ComponentLink1Description: Datasheet
footprint 0805_Resistor (0805 Resistor)
pins: 1, 2

## R_0805_120_1%
designator R?  value 120
RES 120 OHM 1/8W 1% 0805 SMD; ComponentLink1Desciption: Datasheet; Power Rating: .125W; SVP Creator: Jonathan Anders; Known Distributors: Digikey; Package: 0805
footprint 0805_Resistor (0805 Resistor)
pins: 1, 2

## R_0805_130K_1%
designator R?  value 130K  (hidden comment: R_0805_130K_1%)
RES 130K OHM 1/8W 1% 0805 SMD; Power Rating: .125W; SVP Creator: Jonathan Nutzmann; Package: 0805; Known Distributor: Digikey; ComponentLink1Description: Datasheet
footprint 0805_Resistor (0805 Resistor)
pins: 1, 2

## R_0805_150_1%
designator R?  value 150  (hidden comment: R_0805_150_1%)
RES 150 OHM 1/8W 1% 0805 SMD; Power Rating: .125W; Package: 0805; Known Distributor: Digikey; ComponentLink1Description: Datasheet
footprint 0805_Resistor (0805 Resistor)
pins: 1, 2

## R_0805_200_1%_2K_1
designator R?, comment value 200  (hidden comment: R_0805_200_1%)
RES 200 OHM 1/8W 1% 0805 SMD; Power Rating: .125W; SVP Creator: Mark Newcomb; Package: 0805; Known Distributor: Digikey; ComponentLink1Description: Datasheet; ComponentLink1URL: http://search.digikey.com/us/en/products/ERJ-6ENF2000V/P200CCT-ND/118755
footprint 0805_Resistor (0805 Resistor)
pins: 1, 2

## R_0805_200k_1%
designator R?  value 200k  (hidden comment: R_0805_200k_1%)
RES 200K OHM 1/8W 1% 0805 SMD; Manufacturer: Rohm Semiconductor; Power Rating: .125W; SVP Creator: Jonathan Nutzmann; Package: 0805; Known Distributor: Digikey; ComponentLink1Description: Datasheet
footprint 0805_Resistor (0805 Resistor)
pins: 1, 2

## R_0805_240k_1%
designator R?  value 240k
RES 240k OHM 1/8W 1% 0805 SMD; ComponentLink1Desciption: Datasheet; Power Rating: .125W; SVP Creator: Katie Moenkhaus; Known Distributors: Digikey; Package: 0805
footprint 0805_Resistor (0805 Resistor)
pins: 1, 2

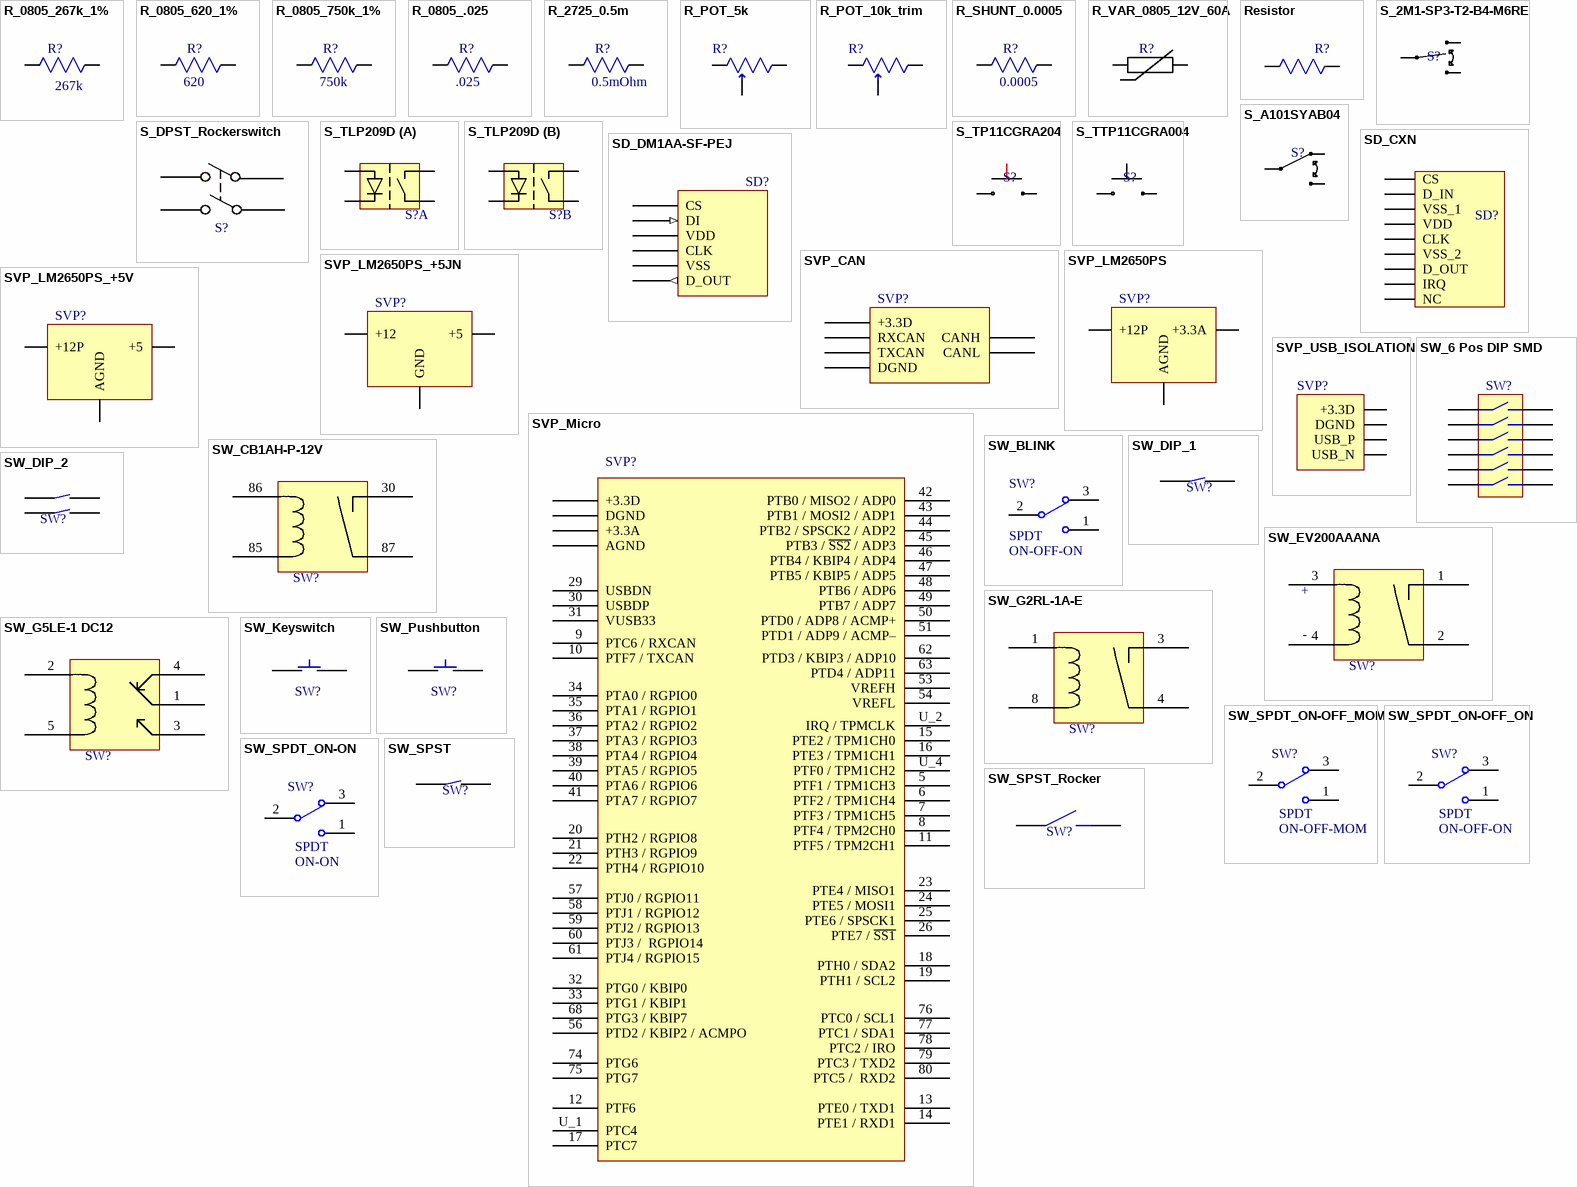
[diagram p6: symbols R_0805_267k_1% to SW_SPST_Rocker]

## R_0805_267k_1%
designator R?  value 267k
RES 267k OHM 1/8W 1% 0805 SMD; ComponentLink1Desciption: Datasheet; Power Rating: .125W; SVP Creator: Jonathan Nutzmann; Known Distributors: Digikey; Package: 0805
footprint 0805_Resistor (0805 Resistor)
pins: 1, 2

## R_0805_620_1%
designator R?  value 620  (hidden comment: R_0805_620_1%)
RES 620 OHM 1/8W 1% 0805 SMD; Power Rating: .125W; SVP Creator: Jonathan Nutzmann; Package: 0805; Known Distributor: Digikey; ComponentLink1Description: Datasheet
footprint 0805_Resistor (0805 Resistor)
pins: 1, 2

## R_0805_750k_1%
designator R?  value 750k  (hidden comment: R_0805_750k_1%)
RES 750K OHM 1/8W 1% 0805 SMD; Manufacturer: Rohm Semiconductor; Manufacturer PN: RHM750KCRCT-ND; Power Rating: .125W; SVP Creator: Jonathan Nutzmann; Package: 0805; Known Distributor: Digikey; ComponentLink1Description: Datasheet
footprint 0805_Resistor (0805 Resistor)
pins: 1, 2

## R_0805_.025
designator R?  value .025  (hidden comment: R_0805_.025)
RES .025 OHM 2W 1% 2512 SMD; Manufacturer: Stackpole Electronics; Manufacturer PN: CSRN2512FK25L0; SVP Creator: Matt Rogge; Package: 2512; Power Rating: 2W; Known Distributor: digikey; ComponentLink1Description: Datasheet; ComponentLink1URL: http://www.seielect.com/Catalog/SEI-CSR.pdf
footprint 2512
pins: 1, 2

## R_2725_0.5m
designator R?  value 0.5mOhm
RES 0.0005 OHM 4W 1% 2725 SMD; Package: 2725; ComponentLink1Description: Datasheet
footprint RES_2725
pins: 1, 2

## R_POT_5k
designator R?, comment POT 5K OHM 1/8W CARB VERTICAL  (value not drawn)
Manufacturer: CTS Corporation Electrocomponents; Manufacturer PN: 296UD502B1N; SVP Creator: Jonathan Nutzmann; Known Distributors: Digi-Key; Price: 1.51; HelpURL: http://umnsvp.dyndns.org/svn/centaurus2/datasheets/Common_breakout_board/296.pdf; ComponentLink1URL: http://umnsvp.dyndns.org/svn/centaurus2/datasheets/Common_breakout_board/296.pdf; ComponentLink1Description: Datasheet
footprint POT_296; pin to pad 2>3 3>2
pins: 1, 2, 3

## R_POT_10k_trim
designator R?, comment TRIMMER 10K OHM 0.5W TH  (value not drawn)
Manufacturer: Bourns; Manufacturer PN: 3362P-1-103LF; SVP Creator: Thomas Daede; Known Distributors: Digi-Key; Price: 1.05; ComponentLink1Description: Datasheet
footprint POT_BOURNS_P; pin to pad 2>3 3>2
pins: 1, 2, 3

## R_SHUNT_0.0005
designator R?  value 0.0005
200 AMP 100 MV SHUNT; Package: TYPE A; Known Distributor: Digikey; ComponentLink1Description: Datasheet
footprint Empro Type A
pins: 1, 2

## R_VAR_0805_12V_60A
designator R?  (value not drawn)
VARISTOR 12V 60A 1000PF 0805 SMD; Manufacturer: TDK Corporation; Manufacturer PN: AVR-M2012C120MT6AB; SVP Creator: Matt Rogge; Package: 0805; Known Distributor: Digikey; ComponentLink1Description: Datasheet; ComponentLink1URL: http://www.tdk.co.jp/tefe02/e9c11_avr.pdf
footprint 0805_Resistor (0805 Resistor)
pins: 1, 2

## Resistor
designator R?
Generic Resistor; SVP Creator: Mark Newcomb; ComponentLink1Description: Datasheet; ComponentLink1URL: SVN Datasheet URL
footprint 0805 (0805 Resistor/Capacitor)
pins: 1, 2

## S_2M1-SP3-T2-B4-M6RE
designator S?  (value not drawn)
SW TOGGLE SPDT .4VA RT ANG PCB; Manufacturer: Carling Technologies; SVP Creator: Matt Rogge; Price: 2.83; Manufacturer PN: 2M1-SP3-T2-B4-M6RE; Known Distributor: digikey; ComponentLink1Description: datasheet; ComponentLink1URL: http://search.digikey.com/us/en/products/2M1-SP3-T2-B4-M6RE/432-1165-ND/668381
footprint A101SYAB04 (SPDT SW)
pins: 1, 2, 3

## S_A101SYAB04
designator S?  (value not drawn)
SWITCH TOGGLE SPDT RT ANGLE PCB; Manufacturer: TE Connectivity; SVP Creator: Matt Rogge; Price: 3.13; Manufacturer PN: A101SYAB04; Known Distributor: digikey; ComponentLink1Description: datasheet; ComponentLink1URL: http://search.digikey.com/us/en/products/A101SYAB04/450-1520-ND/1021805
footprint A101SYAB04 (SPDT SW)
pins: 1, 2, 3

## S_DPST_Rockerswitch
designator S?, comment DPST  (value not drawn)
footprint SW_DPST_FRH32A2BBBNN
pins: 1, 2, 3, 4

## S_TLP209D
designator S?  (value not drawn)
2-Form A 50ohm SSR; Manufacturer: Toshiba; SVP Creator: Adam Shea; Package: 2.54SOP8; Known Distributors: Digikey; Manufacturer PN: TLP209D; Price: 2.67000; HelpURL: http://umnsvp.dyndns.org/svn/centaurus2/datasheets/BPS/TLP209D.pdf; ComponentLink1URL: http://umnsvp.dyndns.org/svn/centaurus2/datasheets/BPS/TLP209D.pdf; ComponentLink1Description: Datasheet
footprint TLP209D
part A pins: 1, 2, 7, 8
part B pins: 3, 4, 5, 6

## S_TP11CGRA204
designator S?  (value not drawn)
SWITCH PUSH SPST-NO 0.4VA 20V RED STOP; Manufacturer: TE Connectivity; SVP Creator: Matt Rogge; Price: 4.98; Manufacturer PN: TP11CGRA204; Known Distributor: digikey; ComponentLink1Description: datasheet; ComponentLink1URL: http://search.digikey.com/us/en/products/TP11CGRA204/450-1370-ND/969180
footprint TP11CGRA00 (OFF-MOM PB)
pins: 1, 3

## S_TTP11CGRA004
designator S?, comment S_TP11CGRA004  (value not drawn)
SWITCH PUSH SPST-NO 0.4VA 20V BLK START; Manufacturer: TE Connectivity; SVP Creator: Matt Rogge; Price: 3.88; Manufacturer PN: TP11CGRA004; Known Distributor: digikey; ComponentLink1Description: datasheet; ComponentLink1URL: http://search.digikey.com/us/en/products/TP11CGRA004/450-1369-ND/969179
footprint TP11CGRA00 (OFF-MOM PB)
pins: 1, 3

## SD_CXN
designator SD?, comment SD_DM1AA-SF-PEJ  (value not drawn)
SD Card Connector; Manufacturer: Hirose Electric Co Ltd; Manufacturer PN: DM1AA-SF-PEJ; ComponentLink1Description: Datasheet; ComponentLink1URL: http://umnsvp.dyndns.org/svn/centaurus3/Hardware/datasheets/Telemetry/DM1AA-SF-PEJ.pdf; HelpURL: http://umnsvp.dyndns.org/svn/centaurus2/datasheets/Telemetry/DM3AT-SF-PEJ.php
footprint DM1AA
pins: 1 CS, 2 D_IN, 3 VSS_1, 4 VDD, 5 CLK, 6 VSS_2, 7 D_OUT, 8 IRQ, 9 NC

## SD_DM1AA-SF-PEJ
designator SD?  (value not drawn)
CONN MEMORY SECURE DIGITAL SMD; Manufacturer: Hirose Electric Co Ltd; SVP Creator: sam kelley; Known Distributors: digikey; Manufacturer PN: DM1AA-SF-PEJ; Price: $3.86; HelpURL: http://umnsvp.dyndns.org/svn/centaurus2/datasheets/Telemetry/DM3AT-SF-PEJ.php; ComponentLink1URL: http://umnsvp.dyndns.org/svn/centaurus2/datasheets/Telemetry/DM3AT-SF-PEJ.php; ComponentLink1Description: Datasheet
footprint DM1AA
pins: 1 CS, 2 DI (in), 3 VSS, 4 VDD (power), 5 CLK, 6 VSS hidden to 3, 7 D_OUT (out)

## SVP_CAN
designator SVP?, comment CAN Network Circuit  (value not drawn)
Manufacturer PN: 42; SVP Creator: Jonathan Nutzmann; Package: Custom; Known Distributors: Jonathan Nutzmann; Manufacturer: Jonathan Nutzmann; ComponentLink1Description: Datasheet; ComponentLink1URL: SVN Datasheet URL
footprint SVP_CAN
pins: +3.3D, CANH, CANL, DGND, RXCAN, TXCAN

## SVP_LM2650PS
designator SVP?, comment Common Power Supply  (value not drawn)
Buck converter to take the +12P rail to +3.3; Manufacturer PN: 42; SVP Creator: Jonathan Nutzmann; Package: Custom; Known Distributors: Jonathan Nutzmann; Manufacturer: Jonathan Nutzmann; ComponentLink1Description: Datasheet; ComponentLink1URL: SVN Datasheet URL
footprint SVP_PowerSupply
pins: +3.3A, +12P, AGND

## SVP_LM2650PS_+5JN
designator SVP?, comment Common Power Supply  (value not drawn)
Buck converter to take the +12P rail to +5; Manufacturer PN: 42; SVP Creator: Jonathan Nutzmann; Package: Custom; Known Distributors: Jonathan Nutzmann; Manufacturer: Jonathan Nutzmann; ComponentLink1Description: Datasheet; ComponentLink1URL: SVN Datasheet URL
footprint SVP_PowerSupply
pins: +3.3A +5, +12P +12, AGND GND

## SVP_LM2650PS_+5V
designator SVP?, comment Common Power Supply  (value not drawn)
Buck converter to take the +12P rail to +5V; Manufacturer PN: 42; SVP Creator: Jonathan Nutzmann; SVP Reviewer 1: Brett Paulsen; Package: Custom; Known Distributors: Jonathan Nutzmann; Manufacturer: Jonathan Nutzmann; ComponentLink1Description: Datasheet; ComponentLink1URL: SVN Datasheet URL
footprint SVP_PowerSupply_+5
pins: +5, +12P, AGND

## SVP_Micro
designator SVP?, comment Common Micro  (value not drawn)
Micro/BDM/Reset/Clock; Manufacturer PN: 42; SVP Creator: Jonathan Nutzmann; Package: Custom; Known Distributors: Jonathan Nutzmann; Manufacturer: Jonathan Nutzmann; ComponentLink1Description: Datasheet; ComponentLink1URL: SVN Datasheet URL
footprint SVP_Micro (Micro, Clock, BDM, Reset, Debug)
pins: 5 PTF1 / TPM1CH3, 6 PTF2 / TPM1CH4, 7 PTF3 / TPM1CH5, 8 PTF4 / TPM2CH0, 9 PTC6 / RXCAN, 10 PTF7 / TXCAN, 11 PTF5 / TPM2CH1, 12 PTF6, 13 PTE0 / TXD1, 14 PTE1 / RXD1, 15 PTE2 / TPM1CH0, 16 PTE3 / TPM1CH1, 17 PTC7, 18 PTH0 / SDA2, 19 PTH1 / SCL2, 20 PTH2 / RGPIO8, 21 PTH3 / RGPIO9, 22 PTH4 / RGPIO10, 23 PTE4 / MISO1, 24 PTE5 / MOSI1, 25 PTE6 / SPSCK1, 26 PTE7 / ~{SS1}, 29 USBDN, 30 USBDP, 31 VUSB33, 32 PTG0 / KBIP0, 33 PTG1 / KBIP1, 34 PTA0 / RGPIO0, 35 PTA1 / RGPIO1, 36 PTA2 / RGPIO2, 37 PTA3 / RGPIO3, 38 PTA4 / RGPIO4, 39 PTA5 / RGPIO5, 40 PTA6 / RGPIO6, 41 PTA7 / RGPIO7, 42 PTB0 / MISO2 / ADP0, 43 PTB1 / MOSI2 / ADP1, 44 PTB2 / SPSCK2 / ADP2, 45 PTB3 / ~{SS2} / ADP3, 46 PTB4 / KBIP4 / ADP4, 47 PTB5 / KBIP5 / ADP5, 48 PTB6 / ADP6, 49 PTB7 / ADP7, 50 PTD0 / ADP8 / ACMP+, 51 PTD1 / ADP9 / ACMP–, 53 VREFH, 54 VREFL, 56 PTD2 / KBIP2 / ACMPO, 57 PTJ0 / RGPIO11, 58 PTJ1 / RGPIO12, 59 PTJ2 / RGPIO13, 60 PTJ3 /  RGPIO14, 61 PTJ4 / RGPIO15, 62 PTD3 / KBIP3 / ADP10, 63 PTD4 / ADP11, 68 PTG3 / KBIP7, 74 PTG6, 75 PTG7, 76 PTC0 / SCL1, 77 PTC1 / SDA1, 78 PTC2 / IRO, 79 PTC3 / TXD2, 80 PTC5 /  RXD2, +3.3A, +3.3D, AGND, DGND, U_1 PTC4, U_2 IRQ / TPMCLK, U_4 PTF0 / TPM1CH2

## SVP_USB_ISOLATION
designator SVP?, comment USB Isolator and Connector  (value not drawn)
Isolates USB and has output connector; Manufacturer PN: 42; SVP Creator: Jonathan Nutzmann; Package: Custom; Known Distributors: Jonathan Nutzmann; Manufacturer: Jonathan Nutzmann; ComponentLink1Description: Datasheet; ComponentLink1URL: SVN Datasheet URL
footprint SVP_USB
pins: +3.3D, DGND, USB_N, USB_P

## SW_6 Pos DIP SMD
designator SW?, comment SW_Switch SPST 6  (value not drawn)
SWITCH TAPE SEAL 6 POS SMD; Manufacturer: CTS Corporation Electrocomponents; Manufacturer PN: 219-6MST; SVP Creator: Jonathan Nutzmann; Known Distributors: Digi-Key; Price: 1.00; ComponentLink1URL: http://umnsvp.dyndns.org/svn/centaurus2/datasheets/Common_breakout_board/206-208.pdf; ComponentLink1Description: Datasheet
pins: 1, 2, 3, 4, 5, 6, 7, 8, 9, 10, 11, 12

## SW_BLINK
designator SW?, comment ON-OFF-ON  (value not drawn)
SWITCH ROCKER SPDT 5A 125V; Manufacturer: TE Connectivity; Manufacturer PN: A103J61ZQ0004; SVP Creator: Graham Smith; Known Distributors: Digikey; ComponentLink1Description: Datasheet; ComponentLink1URL: centaurus3\Hardware\datasheets\F1 Steering Wheel\ENG_CD_1571986_A7.pdf; Price: 4.55
footprint A103J61ZQ0004
pins: 1, 2, 3
text: SPDT

## SW_CB1AH-P-12V
designator SW?
RELAY AUTO SPST 12VDC 70A PCB; Manufacturer: Panasonic Electric Works; Manufacturer PN: CB1AH-P-12V; SVP Creator: Jonathan Nutzmann; Package: Through Hole; Known Distributors: Digikey; ComponentLink1Description: Datasheet
footprint CB1AH-P-12V (RELAY AUTO SPST 12VDC 70A PCB)
pins: 30, 85 -, 86 +, 87 4

## SW_DIP_1
designator SW?  (value not drawn)
SWITCH DIP 1-POS HALF PITCH SMD; Manufacturer: Copal Electronics Inc; Manufacturer PN: CHS-01TA; SVP Creator: Nate Bolyard; SVP Reviewer 1: Trevor Haag; Package: SMD; Known Distributors: Digikey; ComponentLink1Description: Datasheet; ComponentLink1URL: http://umnsvp.dyndns.org/svn/centaurus2/datasheets/Common Board/CHS.pdf; HelpURL: http://umnsvp.dyndns.org/svn/centaurus2/datasheets/Common Board/CHS.pdf
footprint CHS-01TA
pins: 1, 2

## SW_DIP_2
designator SW?  (value not drawn)
SWITCH DIP 2-POS HALF PITCH SMD; Manufacturer: Copal Electronics Inc; Manufacturer PN: CHS-02TA; SVP Creator: Nate Bolyard; SVP Reviewer 1: Trevor Haag; Package: SMD; Known Distributors: Digikey; ComponentLink1Description: Datasheet; ComponentLink1URL: http://umnsvp.dyndns.org/svn/centaurus2/datasheets/Common Board/CHS.pdf; HelpURL: http://umnsvp.dyndns.org/svn/centaurus2/datasheets/Common Board/CHS.pdf
footprint SW_CHS-02TA
pins: 1, 2, 3, 4

## SW_EV200AAANA
designator SW?
RELAY CONTACTOR SPST 500A 12V; Manufacturer: TE; Manufacturer PN: EV200AAANA; Known Distributors: Digikey, Mouser; ComponentLink1Description: Datasheet
footprint EV200
pins: 1, 2, 3 +, 4
text: -

## SW_G2RL-1A-E
designator SW?, comment Relay SPST HV 16A  (value not drawn)
RELAY PWR SPST 16A 12VDC PCB; Manufacturer: Omron Electronics Inc-EMC Divc; Manufacturer PN: G2RL-1A-E DC12; SVP Creator: Thomas Daede; Package: Through Hole; Known Distributors: Digikey; ComponentLink1Description: Datasheet; ComponentLink1URL: http://www.components.omron.com/components/web/PDFLIB.nsf/0/8F66C9A835A195FE85257201007DD572/$file/G2RL_0609.pdf; Price: 2.84
footprint RELAY_OMRON_SPST
pins: 1, 3, 4, 8

## SW_G5LE-1 DC12
designator SW?
RELAY GEN PURPOSE SPDT 10A 12V; Manufacturer: Omron; Manufacturer PN: G5LE-1 DC12; SVP Creator: Jonathan Nutzmann; Package: Through Hole; Known Distributors: Digikey; ComponentLink1Description: Datasheet
footprint G5LE-1 DC12
pins: 1, 2 +, 3, 4, 5 -

## SW_Keyswitch
designator SW?, comment SW_TACT_SWITCH  (value not drawn)
MX Series Desktop Profile 0.60 Inch Keyswitches; Manufacturer: Cherry; Manufacturer PN: MX1A-E1NW; SVP Creator: Graham Smith; Known Distributors: Digikey; Price: *
footprint KeymoduleMX
pins: 1, 2

## SW_Pushbutton
designator SW?, comment SW_PUSH_SWITCH  (value not drawn)
SWITCH PUSH SPST-NO 0.4VA 28V; Manufacturer: NKK Switches; Manufacturer PN: AB11BP-HA; SVP Creator: Graham Smith; Known Distributors: Digikey
footprint AB11BP-HA
pins: 1, 3

## SW_SPDT_ON-OFF_MOM
designator SW?, comment Circuit: SPDT  Switch Function: ON-OFF-MOM  (hidden comment: SWITCH ROCKER SPDT 5A 120V)
Manufacturer: C&K Components; Manufacturer PN: 7107J61ZQE22; SVP Creator: Brett Paulsen; Known Distributors: Digikey and Mouser; ComponentLink1Description: Datasheet; ComponentLink1URL: SVN Datasheet URL; Price: 7.59
footprint 710xj61z_102511
pins: 1, 2, 3

## SW_SPDT_ON-OFF_ON
designator SW?, comment Circuit: SPDT  Switch Function: ON-OFF-ON  (hidden comment: SWITCH ROCKER SPDT 0.4VA 20V)
Manufacturer: C&K Components; Manufacturer PN: 7103J61ZBE22; SVP Creator: Brett Paulsen; Known Distributors: Digikey and Mouser; ComponentLink1Description: Datasheet; ComponentLink1URL: SVN Datasheet URL; Price: 7.59
footprint 710xj61z_102511
pins: 1, 2, 3

## SW_SPDT_ON-ON
designator SW?, comment Circuit: SPDT  Switch Function: ON-ON  (hidden comment: SWITCH ROCKER SPDT 5A 120V)
Manufacturer: C&K Components; Manufacturer PN: 7101J61ZQE22; SVP Creator: Brett Paulsen; Known Distributors: Digikey and Mouser; ComponentLink1Description: Datasheet; ComponentLink1URL: SVN Datasheet URL; Price: 6.98
footprint 710xj61z_102511
pins: 1, 2, 3

## SW_SPST
designator SW?  (value not drawn)
SW TOGGLE BAT SPST R/A W/BRACKET; Manufacturer: NKK Switches; Manufacturer PN: A11AH; SVP Creator: Katie Moenkhaus; Known Distributors: Digikey; ComponentLink1Description: Datasheet; ComponentLink1URL: http://www.nkkswitches.com/pdf/Atoggles.pdf
pins: 1, 2

## SW_SPST_Rocker
designator SW?, comment SWITCH ROCKER SPST 15A W/MRKG  (value not drawn)
Manufacturer: E-Switch; Manufacturer PN: R1966ABLKBLKGS; SVP Creator: Jonathan Nutzmann; Known Distributors: Digi-Key; Price: 1.54; HelpURL: http://umnsvp.dyndns.org/svn/centaurus2/datasheets/Common_breakout_board/M301208B.pdf; ComponentLink1URL: http://umnsvp.dyndns.org/svn/centaurus2/datasheets/Common_breakout_board/M301208B.pdf; ComponentLink1Description: Datasheet
footprint Switch_Rocker
pins: 1, 2

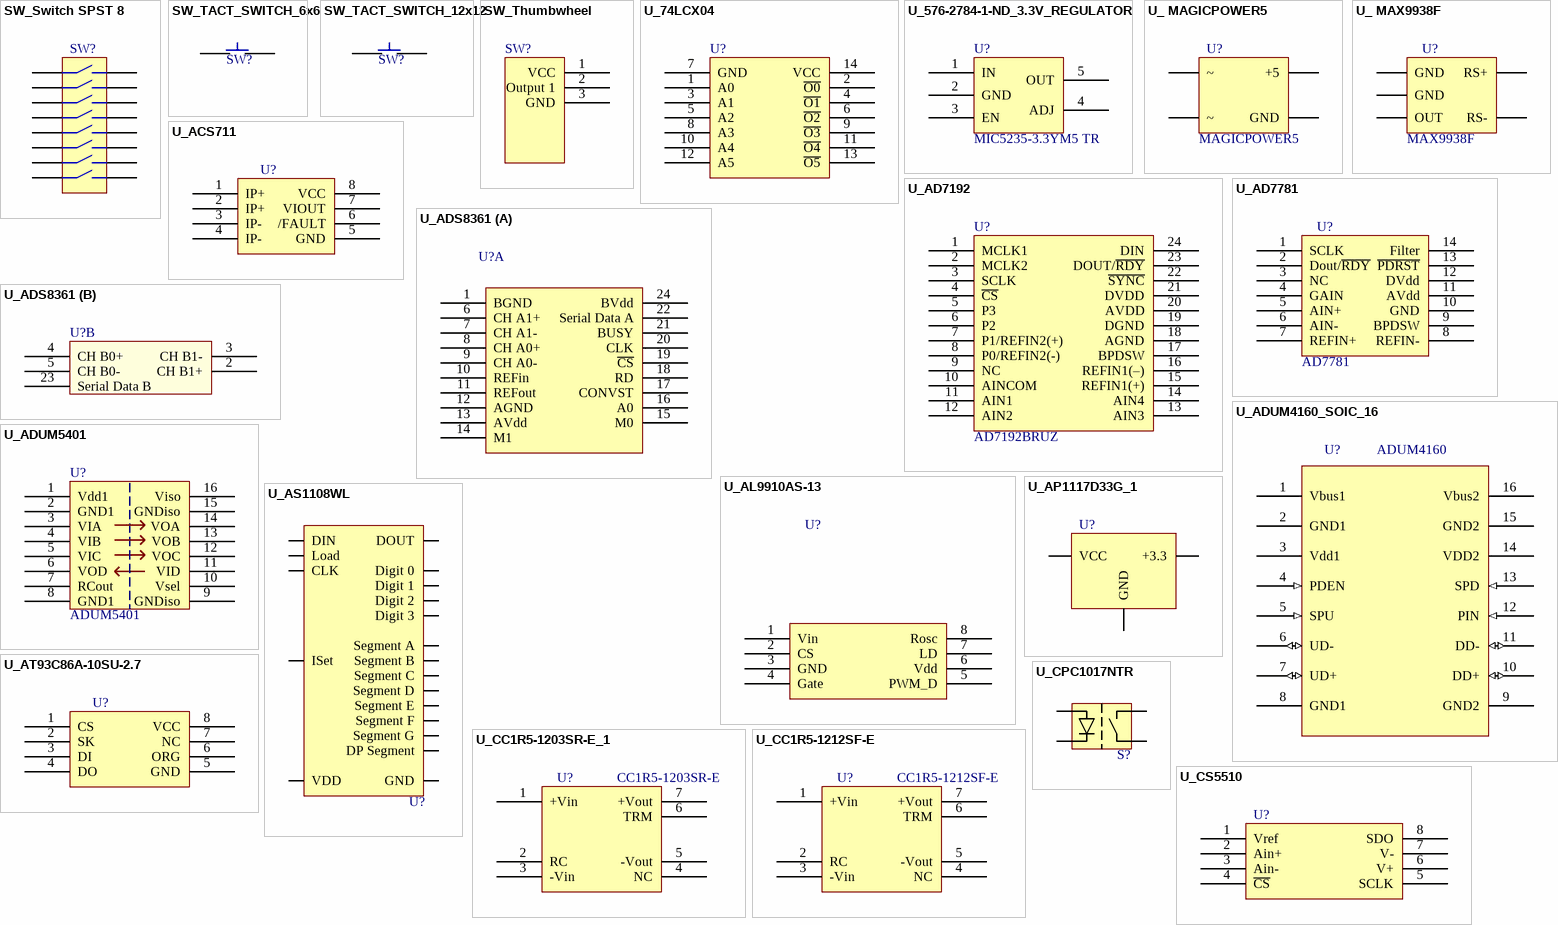
[diagram p7: symbols SW_Switch SPST 8 to U_CS5510]

## SW_Switch SPST 8
designator SW?  (value not drawn)
SWITCH SPST GOLD 8 SEC; Manufacturer: CTS Corporation Electrocomponents; Manufacturer PN: 206-8; SVP Creator: Wriju Bhattacharya; SVP Reviewer 1: Trevtron; Known Distributors: Digi-Key; Price: 0.65; HelpURL: http://umnsvp.dyndns.org/svn/centaurus2/datasheets/Common_breakout_board/206-208.pdf; ComponentLink1URL: http://umnsvp.dyndns.org/svn/centaurus2/datasheets/Common_breakout_board/206-208.pdf; ComponentLink1Description: Datasheet
footprint SWITCH_SPST_8; pin to pad 9>16 10>15 11>14 12>13 13>12 14>11 15>10 16>9
pins: 1, 2, 3, 4, 5, 6, 7, 8, 9, 10, 11, 12, 13, 14, 15, 16

## SW_TACT_SWITCH_6x6
designator SW?  (value not drawn)
SWITCH TACT 6MM BLACK 160GF; Manufacturer: Tyco Electronics; Manufacturer PN: FSM4JH; SVP Creator: Nate Bolyard; Known Distributors: Digikey; Package: 6mm x 6mm
footprint TACT_SWITCH_6x6
pins: 1, 2

## SW_TACT_SWITCH_12x12
designator SW?  (value not drawn)
SWITCH TACT 12MM MOM N/O 130GF; Manufacturer: Omron Electronics Inc-EMC Div; Manufacturer PN: B3F-4050 with B32-1630 style cap; SVP Creator: Matt Crane; Known Distributors: Digikey; Package: 12mm x 12mm
footprint B3F-4050
pins: 1, 2

## SW_Thumbwheel
designator SW?, comment HALL EFFECT THUMBWHEEL  (value not drawn)
RETURN TO END STANDARD THUMBWHEEL; Manufacturer: Otto; Manufacturer PN: HTWE-1A11A22; SVP Creator: Graham Smith; Price: 42.00; ComponentLink1URL: centaurus3\Hardware\datasheets\F1 Steering Wheel\OTTO_HTWE_Hall_Effect.pdf; ComponentLink1Description: Datasheet
footprint Thumbwheel
pins: 1 VCC, 2 Output 1, 3 GND

## U_74LCX04
designator U?, comment Short Part Comment  (value not drawn)
6 CHANNEL HEX INVERTER; Manufacturer: Fairchild; Manufacturer PN: 74LCX04M; SVP Creator: Graham Smith; Package: 14-SOIC; Known Distributors: Digikey; ComponentLink1Description: Datasheet; ComponentLink1URL: centaurus3\Hardware\datasheets\F1 Steering Wheel\74LCX04.pdf; HelpURL: http://search.digikey.com/us/en/products/74LCX07MX/74LCX07MXDKR-ND/2053191; Price: 0.59
footprint SOIC127P600X175-14N (SOIC, 14-Leads, Body 8.8x4.0mm (max), Pitch 1.27mm, IPC Medium Density)
pins: 1 A0, 2 ~{O0}, 3 A1, 4 ~{O1}, 5 A2, 6 ~{O2}, 7 GND, 8 A3, 9 ~{O3}, 10 A4, 11 ~{O4}, 12 A5, 13 ~{O5}, 14 VCC